# Altium schematic symbol library TLV755P.SchLib: 1 symbol
Pins are listed as number, name and electrical type; pins without a type are passive.

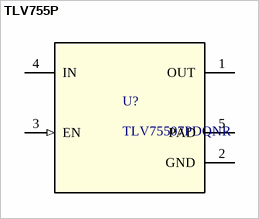
[diagram p0: symbol TLV755P]

## TLV755P
designator U?, comment TLV75507PDQNR
Fixed output, 500-mA, high-PSRR, low-IQ, low-dropout voltage regulator with enable; PartNumber: TLV75533PDQNR; Manufacturer: Texas Instruments; RefDes: RefDes; Type: DEV; Value: Value; Copyright: Copyright (C) 2018 Accelerated Designs. All rights reserved; ComponentLink1Description: Product Page; ComponentLink1URL: https://www.ti.com/product/TLV755P
footprint DQN0004A
pins: 1 OUT (power), 2 GND (power), 3 EN (in), 4 IN (power), 5 PAD